# Altium footprint library TC2015-5P0VCTTR.PcbLib: 3 footprints
Each footprint in its own frame and in the unit in brackets; x right, y up, seen from the top. Pads: shape width x height; smd on the part's side, far side on the other; paste and mask are expansions set on the pad; w line width, h text height; cw(c..) or ccw(c..) is an arc to the next point about the centre after c.
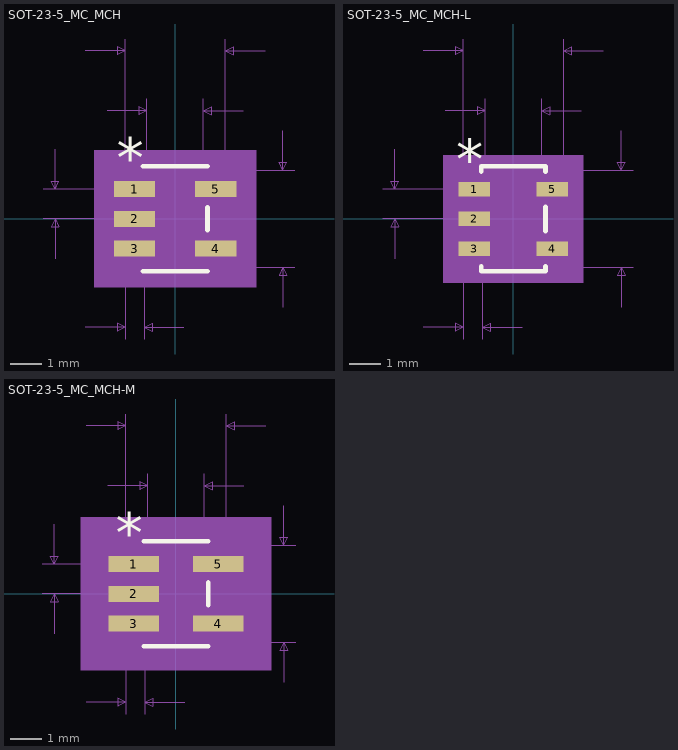
[diagram p0: the footprints below, top view; thin cyan lines are the x and y axes]

## SOT-23-5_MC_MCH [mil]
pads (5):
  rect 51.56x20 smd paste+0 mask+0: 1(-51,37.4) 2(-51,0) 3(-51,-37.4) 4(51,-37.4) 5(51,37.4)
Top Overlay:
  lines w6: -40.5,-66 40.5,-66 ; -40.5,66 40.5,66 ; 40.5,-14.3 40.5,14.3
  text "*" at -73.5,52.4 h50
Mechanical 5:
  region: 101.78,-86 -101.78,-86 -101.78,86 101.78,86
Mechanical 7:
  lines w1: -166,0 -51,0 ; -166,37.4 -51,37.4 ; -151,-50 -151,0 ; -151,87.4 -151,37.4 ; -113,-136 -63,-136 ; -113,211 -63,211 ; -85.5,136 -35.5,136 ; -63,-151 -63,0 -63,226 ; -39,-151 -39,0 ; -35.5,0 -35.5,151 ; 0,-61 150.5,-61 ; 0,61 150.5,61 ; 11,-136 -39,-136 ; 35.5,0 35.5,151 ; 63,0 63,226 ; 85.5,136 35.5,136 ; 113,211 63,211 ; 135.5,-111 135.5,-61 ; 135.5,111 135.5,61 ; -151,0 -156,-10 -146,-10 -151,0 ; -151,37.4 -156,47.4 -146,47.4 -151,37.4 ; -63,-136 -73,-131 -73,-141 -63,-136 ; -63,211 -73,216 -73,206 -63,211 ; -39,-136 -29,-131 -29,-141 -39,-136 ; -35.5,136 -45.5,141 -45.5,131 -35.5,136 ; 35.5,136 45.5,141 45.5,131 35.5,136 ; 63,211 73,216 73,206 63,211 ; 135.5,-61 130.5,-71 140.5,-71 135.5,-61 ; 135.5,61 130.5,71 140.5,71 135.5,61
  text "Default Padstyle: r131_51" at -312.5,-261 h50
  text "Pin 1 Padstyle: r131_51" at -287.5,-321 h50
  text "Alt 1 Padstyle: b152_229h76" at -337.5,-501 h50
  text "Alt 2 Padstyle: b229_152h76" at -337.5,-561 h50
  text "0.071in/1.803mm" at -93.75,156 h25
  text "0.126in/3.2mm" at -81.25,231 h25
  text "0.122in/3.099mm" at 155.5,-12.5 h25
  text "0.037in/0.95mm" at -346,6.2 h25
  text "0.024in/0.61mm" at -138.5,-181 h25
Mechanical 13:
  lines w0: -12,61 ccw(c0,61) 12,61
  lines w1: -63,-47.4 -63,-27.4 -35.5,-27.4 -35.5,-47.4 -63,-47.4 ; -63,-10 -63,10 -35.5,10 -35.5,-10 -63,-10 ; -63,27.4 -63,47.4 -35.5,47.4 -35.5,27.4 -63,27.4 ; -35.5,-61 35.5,-61 35.5,61 -35.5,61 -35.5,-61 ; 35.5,-47.4 35.5,-27.4 63,-27.4 63,-47.4 35.5,-47.4 ; 35.5,27.4 35.5,47.4 63,47.4 63,27.4 35.5,27.4
  text "*" at -38,14.4 h50
Mechanical 15:
  region: 45.5,-71 -45.5,-71 -45.5,-57.4 -86.78,-57.4 -86.78,57.4 -45.5,57.4 -45.5,71 45.5,71 45.5,57.4 86.78,57.4 86.78,-57.4 45.5,-57.4
  lines w6: -86.78,-57.4 -45.5,-57.4 -45.5,-71 45.5,-71 45.5,-57.4 86.78,-57.4 86.78,57.4 45.5,57.4 45.5,71 -45.5,71 -45.5,57.4 -86.78,57.4 -86.78,-57.4
3D body: height 10, standoff 0, extent 0,0 10,10

## SOT-23-5_MC_MCH-L [mm]
pads (5):
  rect 1.01x0.458 smd paste+0 mask+0: 1(-1.245,0.95) 2(-1.245,0) 3(-1.245,-0.95) 4(1.245,-0.95) 5(1.245,0.95)
Top Overlay:
  lines w0.152: -1.029,-1.512 -1.029,-1.676 1.029,-1.676 1.029,-1.512 ; -1.029,1.512 -1.029,1.676 1.029,1.676 1.029,1.512 ; 1.029,-0.388 1.029,0.388
  text "*" at -1.817,1.281 h1.27
Mechanical 5:
  region: 2.233,-2.032 -2.233,-2.032 -2.233,2.032 2.233,2.032
Mechanical 7:
  lines w0.025: -4.166,0 -1.245,0 ; -4.166,0.95 -1.245,0.95 ; -3.785,-1.27 -3.785,0 ; -3.785,2.22 -3.785,0.95 ; -2.87,-3.454 -1.6,-3.454 ; -2.87,5.359 -1.6,5.359 ; -2.172,3.454 -0.902,3.454 ; -1.6,-3.835 -1.6,0 -1.6,5.74 ; -0.991,-3.835 -0.991,0 ; -0.902,0 -0.902,3.835 ; 0,-1.549 3.823,-1.549 ; 0,1.549 3.823,1.549 ; 0.279,-3.454 -0.991,-3.454 ; 0.902,0 0.902,3.835 ; 1.6,0 1.6,5.74 ; 2.172,3.454 0.902,3.454 ; 2.87,5.359 1.6,5.359 ; 3.442,-2.819 3.442,-1.549 ; 3.442,2.819 3.442,1.549 ; -3.785,0 -3.912,-0.254 -3.658,-0.254 -3.785,0 ; -3.785,0.95 -3.912,1.204 -3.658,1.204 -3.785,0.95 ; -1.6,-3.454 -1.854,-3.327 -1.854,-3.581 -1.6,-3.454 ; -1.6,5.359 -1.854,5.486 -1.854,5.232 -1.6,5.359 ; -0.991,-3.454 -0.737,-3.327 -0.737,-3.581 -0.991,-3.454 ; -0.902,3.454 -1.156,3.581 -1.156,3.327 -0.902,3.454 ; 0.902,3.454 1.156,3.581 1.156,3.327 0.902,3.454 ; 1.6,5.359 1.854,5.486 1.854,5.232 1.6,5.359 ; 3.442,-1.549 3.315,-1.803 3.569,-1.803 3.442,-1.549 ; 3.442,1.549 3.315,1.803 3.569,1.803 3.442,1.549
  text "Default Padstyle: r101_46" at -7.938,-6.629 h1.27
  text "Pin 1 Padstyle: r101_46" at -7.302,-8.153 h1.27
  text "Alt 1 Padstyle: b152_229h76" at -8.572,-12.725 h1.27
  text "Alt 2 Padstyle: b229_152h76" at -8.572,-14.249 h1.27
  text "0.071in/1.803mm" at -2.381,3.962 h0.64
  text "0.126in/3.2mm" at -2.064,5.867 h0.64
  text "0.122in/3.099mm" at 3.95,-0.318 h0.64
  text "0.037in/0.95mm" at -8.738,0.158 h0.64
  text "0.024in/0.61mm" at -3.518,-4.597 h0.64
Mechanical 13:
  lines w0: -0.305,1.549 ccw(c0,1.549) 0.305,1.549
  lines w0.025: -1.6,-1.204 -1.6,-0.696 -0.902,-0.696 -0.902,-1.204 -1.6,-1.204 ; -1.6,-0.254 -1.6,0.254 -0.902,0.254 -0.902,-0.254 -1.6,-0.254 ; -1.6,0.696 -1.6,1.204 -0.902,1.204 -0.902,0.696 -1.6,0.696 ; -0.902,-1.549 0.902,-1.549 0.902,1.549 -0.902,1.549 -0.902,-1.549 ; 0.902,-1.204 0.902,-0.696 1.6,-0.696 1.6,-1.204 0.902,-1.204 ; 0.902,0.696 0.902,1.204 1.6,1.204 1.6,0.696 0.902,0.696
  text "*" at -0.965,0.316 h1.27
Mechanical 15:
  region: 1.003,-1.651 -1.003,-1.651 -1.003,-1.281 -1.852,-1.281 -1.852,1.281 -1.003,1.281 -1.003,1.651 1.003,1.651 1.003,1.281 1.852,1.281 1.852,-1.281 1.003,-1.281
  lines w0.152: -1.852,-1.281 -1.003,-1.281 -1.003,-1.651 1.003,-1.651 1.003,-1.281 1.852,-1.281 1.852,1.281 1.003,1.281 1.003,1.651 -1.003,1.651 -1.003,1.281 -1.852,1.281 -1.852,-1.281
3D body: height 0.25, standoff 0, extent 0,0 0.254,0.254

## SOT-23-5_MC_MCH-M [mil]
pads (5):
  rect 63.37x20 smd paste+0 mask+0: 1(-52.97,37.4) 2(-52.97,0) 3(-52.97,-37.4) 4(52.97,-37.4) 5(52.97,37.4)
Top Overlay:
  lines w6: -40.5,-66 40.5,-66 ; -40.5,66 40.5,66 ; 40.5,-14.3 40.5,14.3
  text "*" at -75.47,52.4 h50
Mechanical 5:
  region: 119.65,-96 -119.65,-96 -119.65,96 119.65,96
Mechanical 7:
  lines w1: -167.97,0 -52.97,0 ; -167.97,37.4 -52.97,37.4 ; -152.97,-50 -152.97,0 ; -152.97,87.4 -152.97,37.4 ; -113,-136 -63,-136 ; -113,211 -63,211 ; -85.5,136 -35.5,136 ; -63,-151 -63,0 -63,226 ; -39,-151 -39,0 ; -35.5,0 -35.5,151 ; 0,-61 150.5,-61 ; 0,61 150.5,61 ; 11,-136 -39,-136 ; 35.5,0 35.5,151 ; 63,0 63,226 ; 85.5,136 35.5,136 ; 113,211 63,211 ; 135.5,-111 135.5,-61 ; 135.5,111 135.5,61 ; -152.97,0 -157.97,-10 -147.97,-10 -152.97,0 ; -152.97,37.4 -157.97,47.4 -147.97,47.4 -152.97,37.4 ; -63,-136 -73,-131 -73,-141 -63,-136 ; -63,211 -73,216 -73,206 -63,211 ; -39,-136 -29,-131 -29,-141 -39,-136 ; -35.5,136 -45.5,141 -45.5,131 -35.5,136 ; 35.5,136 45.5,141 45.5,131 35.5,136 ; 63,211 73,216 73,206 63,211 ; 135.5,-61 130.5,-71 140.5,-71 135.5,-61 ; 135.5,61 130.5,71 140.5,71 135.5,61
  text "Default Padstyle: r161_51" at -312.5,-261 h50
  text "Pin 1 Padstyle: r161_51" at -287.5,-321 h50
  text "Alt 1 Padstyle: b152_229h76" at -337.5,-501 h50
  text "Alt 2 Padstyle: b229_152h76" at -337.5,-561 h50
  text "0.071in/1.803mm" at -93.75,156 h25
  text "0.126in/3.2mm" at -81.25,231 h25
  text "0.122in/3.099mm" at 155.5,-12.5 h25
  text "0.037in/0.95mm" at -347.97,6.2 h25
  text "0.024in/0.61mm" at -138.5,-181 h25
Mechanical 13:
  lines w0: -12,61 ccw(c0,61) 12,61
  lines w1: -63,-47.4 -63,-27.4 -35.5,-27.4 -35.5,-47.4 -63,-47.4 ; -63,-10 -63,10 -35.5,10 -35.5,-10 -63,-10 ; -63,27.4 -63,47.4 -35.5,47.4 -35.5,27.4 -63,27.4 ; -35.5,-61 35.5,-61 35.5,61 -35.5,61 -35.5,-61 ; 35.5,-47.4 35.5,-27.4 63,-27.4 63,-47.4 35.5,-47.4 ; 35.5,27.4 35.5,47.4 63,47.4 63,27.4 35.5,27.4
  text "*" at -38,14.4 h50
Mechanical 15:
  region: 55.5,-81 -55.5,-81 -55.5,-67.4 -104.65,-67.4 -104.65,67.4 -55.5,67.4 -55.5,81 55.5,81 55.5,67.4 104.65,67.4 104.65,-67.4 55.5,-67.4
  lines w6: -104.65,-67.4 -55.5,-67.4 -55.5,-81 55.5,-81 55.5,-67.4 104.65,-67.4 104.65,67.4 55.5,67.4 55.5,81 -55.5,81 -55.5,67.4 -104.65,67.4 -104.65,-67.4
3D body: height 10, standoff 0, extent 0,0 10,10